# Altium footprint library LiPoBattery.PcbLib: 4 footprints
Each footprint in its own frame and in the unit in brackets; x right, y up, seen from the top. Pads: shape width x height; smd on the part's side, far side on the other; paste and mask are expansions set on the pad; w line width, h text height; cw(c..) or ccw(c..) is an arc to the next point about the centre after c.
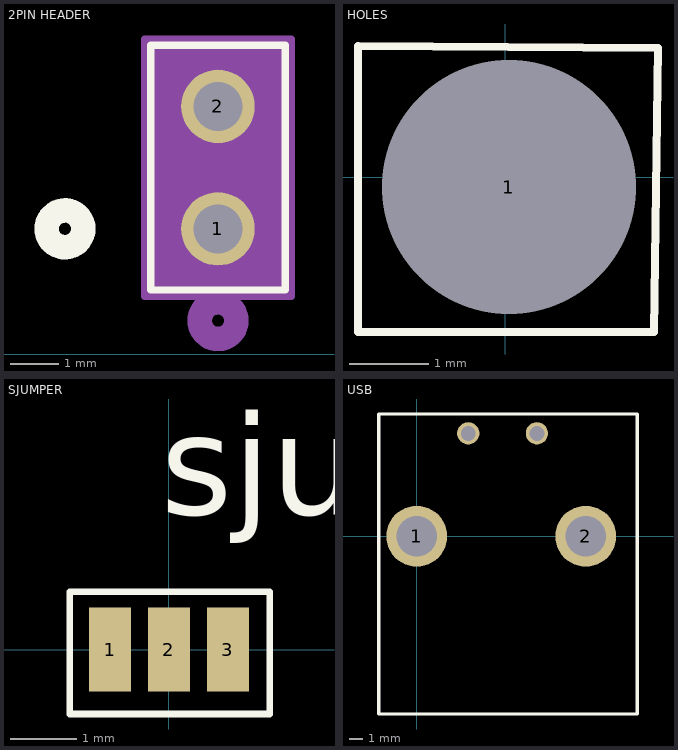
[diagram p0: the footprints below, top view; thin cyan lines are the x and y axes]

## 2PIN HEADER [mil]
pads (2):
  round 60 hole 40 paste-99999 mask+0: 1(404.17,102.4) 2(404.17,202.4)
Top Overlay:
  circle w20: c279.17,102.4 r15
  lines w6: 349.17,52.4 459.17,52.4 459.17,252.4 349.17,252.4 349.17,52.4
Bottom Overlay:
  circle w20: c279.17,102.4 r15
Mechanical 13:
  circle w20: c404.17,27.4 r15
  lines w1: 354.17,57.4 454.17,57.4 454.17,247.4 354.17,247.4 354.17,57.4
Mechanical 15:
  region: 464.17,257.4 344.17,257.4 344.17,47.4 464.17,47.4
  lines w6: 344.17,47.4 344.17,257.4 464.17,257.4 464.17,47.4 344.17,47.4

## HOLES [mm]
pads (1):
  round 1 hole 3.2 unplated: 1(0.05,-0.125)
Top Overlay:
  lines w0.1: -1.85,-1.95 1.875,-1.95 1.925,1.625 -1.85,1.65 -1.85,-1.95
Mechanical 1:

## SJUMPER [mil]
pads (3):
  rect 25x50 smd: 1(-35,0) 2(0,0) 3(35,0)
Top Overlay:
  lines w3.94: -59.06,-38.39 -59.06,34.45 60.04,34.45 60.04,-38.39 -59.06,-38.39
  text "sjumper" at -4.76,80.19 h60

## USB [mm]
pads (4):
  round 4.5 hole 3: 1(0,0) 2(12.5,0)
  round 1.65 hole 1.1: ""(3.81,7.62) ""(8.89,7.62)
Top Overlay:
  lines w0.254: -2.8,-13.15 16.3,-13.15 16.3,9.05 -2.8,9.05 -2.8,-2.05 -2.8,-13.15
  text ".Designator" at -0.246,10.112 h1.52
3D body "c-0179276-12-b-3d.stp": height 10.86, standoff -3.79, extent -3.39,-13.75 15.69,8.35